# Altium schematic symbol library C1F-8.SchLib: 1 symbol
Pins are listed as number, name and electrical type; pins without a type are passive.

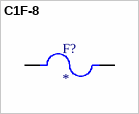
[diagram p0: symbol C1F-8]

## C1F-8
designator F?
C1F 8 (0685F8000-01) | 1206 SMT Fuse | Fast Acting | 8A; MF: Bel Fuse; MP: C1F-8; Availability: Unavailable; Value: *; Price: None; Package: 1206 Bel Fuse; SnapEDA_Link: https://www.snapeda.com/parts/C1F-8/Bel%20Fuse/view-part/4620009/?ref=snap; Check_prices: https://www.snapeda.com/parts/C1F-8/Bel%20Fuse/view-part/4620009/?ref=eda
footprint FUSC3215X83N
pins: 1, 2